# Altium schematic symbol library Schlib.SchLib: 13 symbols
Pins are listed as number, name and electrical type; pins without a type are passive.

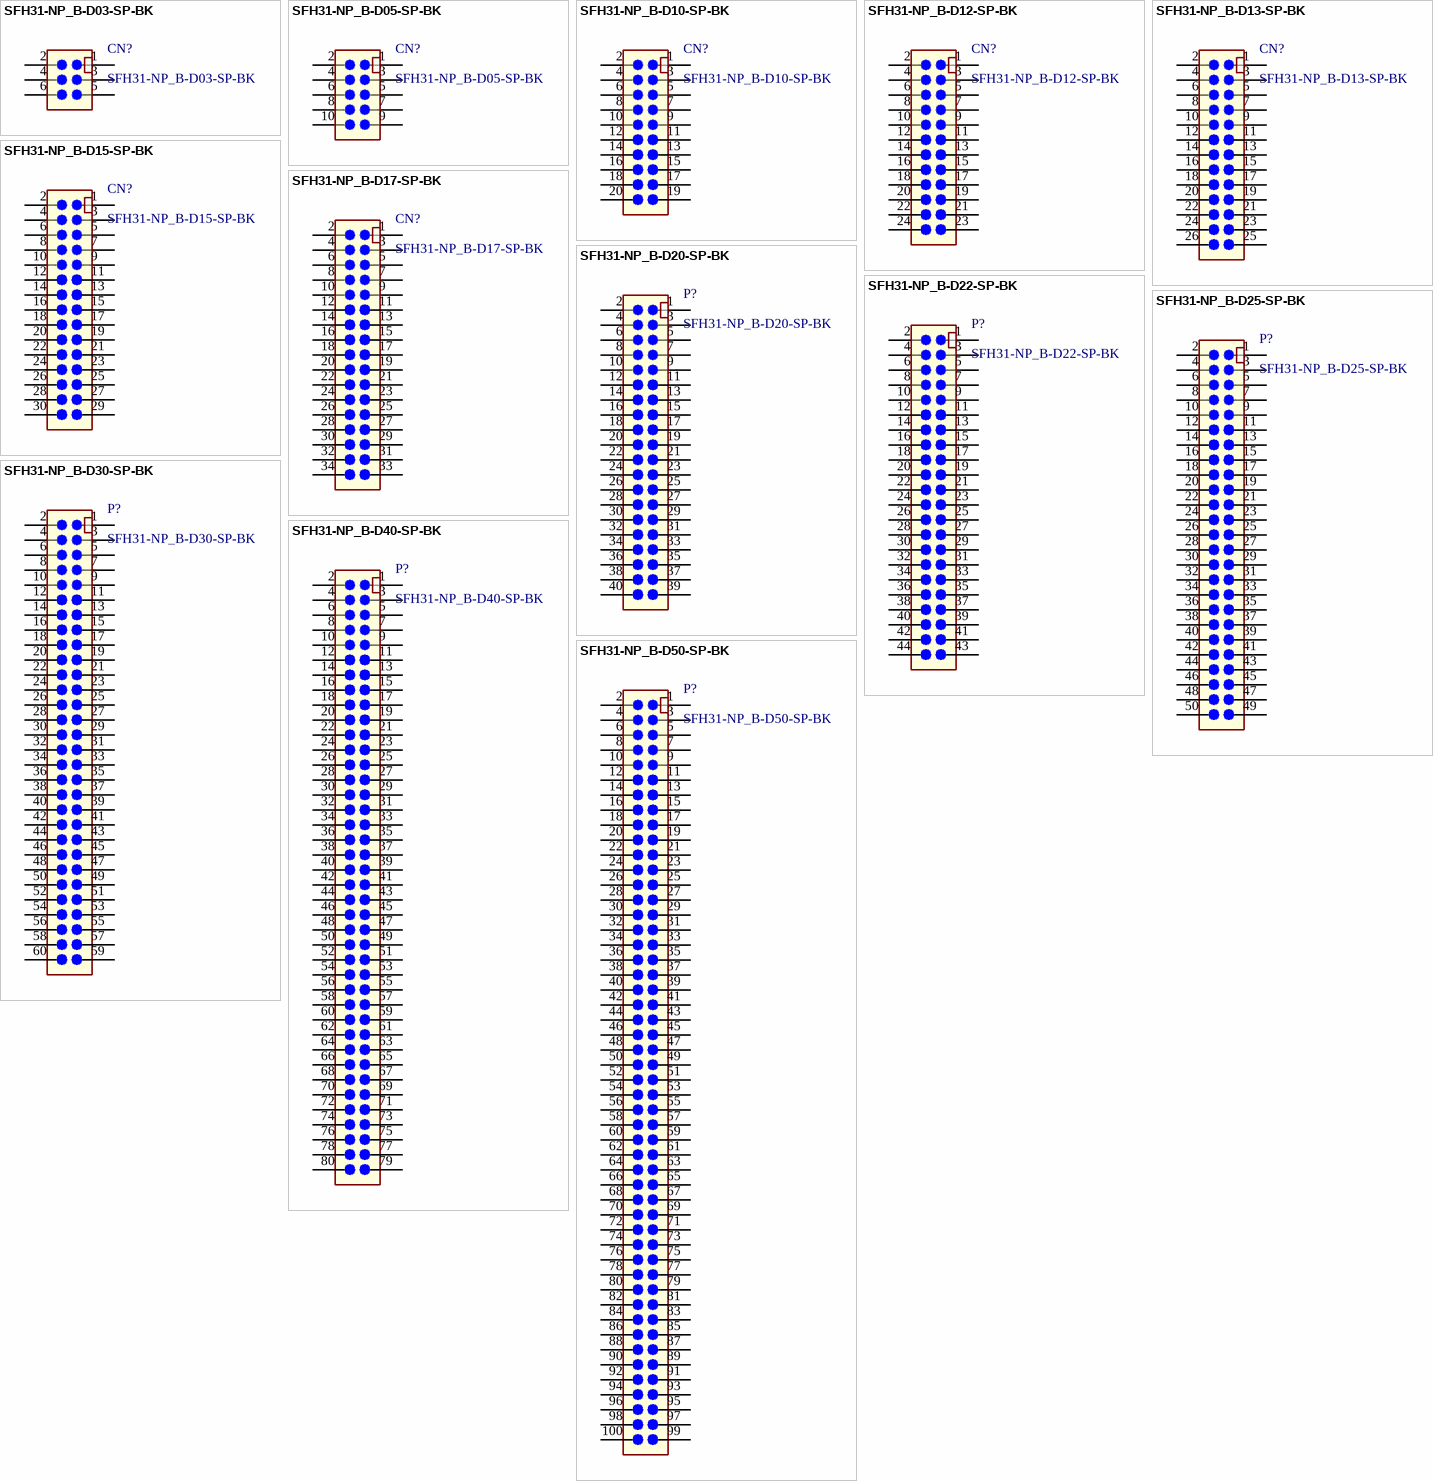
[diagram p0: symbols SFH31-NP_B-D03-SP-BK to SFH31-NP_B-D50-SP-BK]

## SFH31-NP_B-D03-SP-BK
designator CN?
1.27mm SMT Female Header with Guide Posts & Polarizing Key; LInk: http://www.sullinscorp.com/product/?pn=SFH31-NPPB-D03-SP-BK&toggle=mm
footprint SFH31-NP_B-D03-SP-BK (1.27mm SMT Female Header with Guide Posts & Polarizing Key)
pins: 1, 2, 3, 4, 5, 6

## SFH31-NP_B-D05-SP-BK
designator CN?
1.27mm SMT Female Header with Guide Posts & Polarizing Key; LInk: http://www.sullinscorp.com/product/?pn=SFH31-NPPB-D03-SP-BK&toggle=mm
footprint SFH31-NP_B-D05-SP-BK (Footprint not found)
pins: 1, 2, 3, 4, 5, 6, 7, 8, 9, 10

## SFH31-NP_B-D10-SP-BK
designator CN?
1.27mm SMT Female Header with Guide Posts & Polarizing Key; LInk: http://www.sullinscorp.com/product/?pn=SFH31-NPPB-D03-SP-BK&toggle=mm
footprint SFH31-NP_B-D10-SP-BK (1.27mm SMT Female Header with Guide Posts & Polarizing Key)
pins: 1, 2, 3, 4, 5, 6, 7, 8, 9, 10, 11, 12, 13, 14, 15, 16, 17, 18, 19, 20

## SFH31-NP_B-D12-SP-BK
designator CN?
1.27mm SMT Female Header with Guide Posts & Polarizing Key; LInk: http://www.sullinscorp.com/product/?pn=SFH31-NPPB-D03-SP-BK&toggle=mm
footprint SFH31-NP_B-D12-SP-BK (Footprint not found)
pins: 1, 2, 3, 4, 5, 6, 7, 8, 9, 10, 11, 12, 13, 14, 15, 16, 17, 18, 19, 20, 21, 22, 23, 24

## SFH31-NP_B-D13-SP-BK
designator CN?
1.27mm SMT Female Header with Guide Posts & Polarizing Key; LInk: http://www.sullinscorp.com/product/?pn=SFH31-NPPB-D03-SP-BK&toggle=mm
footprint SFH31-NP_B-D13-SP-BK (1.27mm SMT Female Header with Guide Posts & Polarizing Key)
pins: 1, 2, 3, 4, 5, 6, 7, 8, 9, 10, 11, 12, 13, 14, 15, 16, 17, 18, 19, 20, 21, 22, 23, 24, 25, 26

## SFH31-NP_B-D15-SP-BK
designator CN?
1.27mm SMT Female Header with Guide Posts & Polarizing Key; LInk: http://www.sullinscorp.com/product/?pn=SFH31-NPPB-D03-SP-BK&toggle=mm
footprint SFH31-NP_B-D15-SP-BK (Footprint not found)
pins: 1, 2, 3, 4, 5, 6, 7, 8, 9, 10, 11, 12, 13, 14, 15, 16, 17, 18, 19, 20, 21, 22, 23, 24, 25, 26, 27, 28, 29, 30

## SFH31-NP_B-D17-SP-BK
designator CN?
1.27mm SMT Female Header with Guide Posts & Polarizing Key; LInk: http://www.sullinscorp.com/product/?pn=SFH31-NPPB-D03-SP-BK&toggle=mm
footprint SFH31-NP_B-D17-SP-BK (1.27mm SMT Female Header with Guide Posts & Polarizing Key)
pins: 1, 2, 3, 4, 5, 6, 7, 8, 9, 10, 11, 12, 13, 14, 15, 16, 17, 18, 19, 20, 21, 22, 23, 24, 25, 26, 27, 28, 29, 30, 31, 32, 33, 34

## SFH31-NP_B-D20-SP-BK
designator P?
1.27mm SMT Female Header with Guide Posts & Polarizing Key
footprint SFH31-NP_B-D20-SP-BK (Footprint not found)
pins: 1, 2, 3, 4, 5, 6, 7, 8, 9, 10, 11, 12, 13, 14, 15, 16, 17, 18, 19, 20, 21, 22, 23, 24, 25, 26, 27, 28, 29, 30, 31, 32, 33, 34, 35, 36, 37, 38, 39, 40

## SFH31-NP_B-D22-SP-BK
designator P?
1.27mm SMT Female Header with Guide Posts & Polarizing Key
footprint SFH31-NP_B-D22-SP-BK (Footprint not found)
pins: 1, 2, 3, 4, 5, 6, 7, 8, 9, 10, 11, 12, 13, 14, 15, 16, 17, 18, 19, 20, 21, 22, 23, 24, 25, 26, 27, 28, 29, 30, 31, 32, 33, 34, 35, 36, 37, 38, 39, 40, 41, 42, 43, 44

## SFH31-NP_B-D25-SP-BK
designator P?
1.27mm SMT Female Header with Guide Posts & Polarizing Key
footprint SFH31-NP_B-D25-SP-BK (Footprint not found)
pins: 1, 2, 3, 4, 5, 6, 7, 8, 9, 10, 11, 12, 13, 14, 15, 16, 17, 18, 19, 20, 21, 22, 23, 24, 25, 26, 27, 28, 29, 30, 31, 32, 33, 34, 35, 36, 37, 38, 39, 40, 41, 42, 43, 44, 45, 46, 47, 48, 49, 50

## SFH31-NP_B-D30-SP-BK
designator P?
1.27mm SMT Female Header with Guide Posts & Polarizing Key
footprint SFH31-NP_B-D30-SP-BK (Footprint not found)
pins: 1, 2, 3, 4, 5, 6, 7, 8, 9, 10, 11, 12, 13, 14, 15, 16, 17, 18, 19, 20, 21, 22, 23, 24, 25, 26, 27, 28, 29, 30, 31, 32, 33, 34, 35, 36, 37, 38, 39, 40, 41, 42, 43, 44, 45, 46, 47, 48, 49, 50, 51, 52, 53, 54, 55, 56, 57, 58, 59, 60

## SFH31-NP_B-D40-SP-BK
designator P?
1.27mm SMT Female Header with Guide Posts & Polarizing Key
footprint SFH31-NP_B-D40-SP-BK (Footprint not found)
pins: 1, 2, 3, 4, 5, 6, 7, 8, 9, 10, 11, 12, 13, 14, 15, 16, 17, 18, 19, 20, 21, 22, 23, 24, 25, 26, 27, 28, 29, 30, 31, 32, 33, 34, 35, 36, 37, 38, 39, 40, 41, 42, 43, 44, 45, 46, 47, 48, 49, 50, 51, 52, 53, 54, 55, 56, 57, 58, 59, 60, 61, 62, 63, 64, 65, 66, 67, 68, 69, 70, 71, 72, 73, 74, 75, 76, 77, 78, 79, 80

## SFH31-NP_B-D50-SP-BK
designator P?
1.27mm SMT Female Header with Guide Posts & Polarizing Key
footprint SFH31-NP_B-D50-SP-BK (1.27mm SMT Female Header with Guide Posts & Polarizing Key)
pins: 1, 2, 3, 4, 5, 6, 7, 8, 9, 10, 11, 12, 13, 14, 15, 16, 17, 18, 19, 20, 21, 22, 23, 24, 25, 26, 27, 28, 29, 30, 31, 32, 33, 34, 35, 36, 37, 38, 39, 40, 41, 42, 43, 44, 45, 46, 47, 48, 49, 50, 51, 52, 53, 54, 55, 56, 57, 58, 59, 60, 61, 62, 63, 64, 65, 66, 67, 68, 69, 70, 71, 72, 73, 74, 75, 76, 77, 78, 79, 80, 81, 82, 83, 84, 85, 86, 87, 88, 89, 90, 91, 92, 93, 94, 95, 96, 97, 98, 99, 100